# Altium footprint library PCBLib_Sceric.PcbLib: 5 footprints
Each footprint in its own frame and in the unit in brackets; x right, y up, seen from the top. Pads: shape width x height; smd on the part's side, far side on the other; paste and mask are expansions set on the pad; w line width, h text height; cw(c..) or ccw(c..) is an arc to the next point about the centre after c.
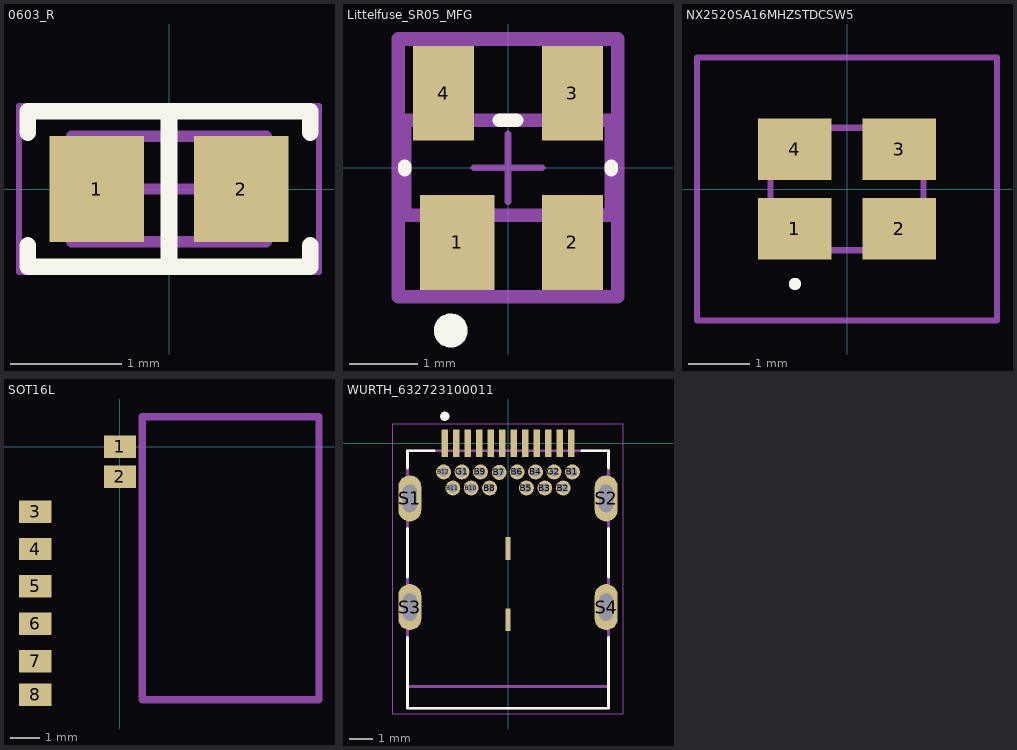
[diagram p0: the footprints below, top view; thin cyan lines are the x and y axes]

## 0603_R [mm]
pads (2):
  rect 0.85x0.95 smd: 1(-0.65,0) 2(0.65,0)
Top Overlay:
  lines w0.15: -1.27,-0.508 -1.27,-0.7 1.27,-0.7 1.27,-0.508 ; -1.27,0.508 -1.27,0.7 1.27,0.7 1.27,0.508 ; 0,-0.7 0,0.7
Mechanical 13:
  lines w0.1: -0.875,-0.475 0.875,-0.475 0.875,0.475 -0.875,0.475 -0.875,-0.475
Mechanical 15:
  lines w0.05: -1.35,-0.75 1.35,-0.75 1.35,0.75 -1.35,0.75 -1.35,-0.75
  lines w0.1: -0.475,0 0.475,0 ; 0,-0.475 0,0.475
3D body "0603 resistor.STEP": height 0.45, standoff 0, extent -0.8,-0.4 0.8,0.4

## Littelfuse_SR05_MFG [mm]
pads (4):
  rect 1.1x1.4 smd paste+0 mask+0: 1(-0.75,-1.1)
  rect 0.9x1.4 smd paste+0 mask+0: 2(0.95,-1.1) 3(0.95,1.1) 4(-0.95,1.1)
Top Overlay:
  circle w0.25: c-0.845,-2.4 r0.125
  lines w0.2: -1.52,-0.025 -1.52,0.025 ; -0.125,0.7 0.125,0.7 ; 1.52,-0.025 1.52,0.025
Mechanical 10:
  lines w0.2: -1.62,-1.9 1.62,-1.9 1.62,1.9 -1.62,1.9 -1.62,-1.9
  text ".Designator" at 0,-0.001 h1
Mechanical 12:
  lines w0.2: -1.52,-0.7 1.52,-0.7 1.52,0.7 -1.52,0.7 -1.52,-0.7
Mechanical 15:
  lines w0.1: -0.5,0 0.5,0 ; 0,-0.5 0,0.5
  lines w0.2: -1.62,-1.9 1.62,-1.9 1.62,1.9 -1.62,1.9 -1.62,-1.9
3D body "Diode_Littelfuse_SR05-02CTG_eec.STEP": height 0.25, standoff 0, extent -1.62,-1.9 1.62,1.9

## NX2520SA16MHZSTDCSW5 [mm]
pads (4):
  rect 1.2x1 smd: 1(-0.85,-0.65) 2(0.85,-0.65) 3(0.85,0.65) 4(-0.85,0.65)
Top Overlay:
  lines w0.1: -0.85,-1.6 cw(c-0.85,-1.55) -0.85,-1.5 cw(c-0.85,-1.55) -0.85,-1.6
Mechanical 13:
  lines w0.1: -1.25,-1 -1.25,1 1.25,1 1.25,-1 -1.25,-1
Mechanical 15:
  lines w0.1: -2.45,-2.15 -2.45,2.15 2.45,2.15 2.45,-2.15 -2.45,-2.15
3D body "NX2520SA-16MHZ-STD-CSW-5.stp": height 0.65, standoff 0, extent -1.35,-1.05 1.35,1.05

## SOT16L [mm]
pads (8):
  rect 1.1x0.76 smd: 1(0,0) 2(0,-1.016) 3(-2.879,-2.201) 4(-2.879,-3.471) 5(-2.879,-4.741) 6(-2.879,-6.011) 7(-2.879,-7.281) 8(-2.879,-8.424)
Mechanical 13:
  lines w0.254: 0.762,-8.584 0.762,1.016 6.762,1.016 6.762,-8.584 0.762,-8.584

## WURTH_632723100011 [mm]
height 10.5
pads (32):
  rect 0.3x1.2 smd: A1(-2.75,0) A2(-2.25,0) A3(-1.75,0) A4(-1.25,0) A5(-0.75,0) A6(-0.25,0) A7(0.25,0) A8(0.75,0) A9(1.25,0) A10(1.75,0) A11(2.25,0) A12(2.75,0)
  round 0.65 hole 0.4: B1(2.8,-1.25) B2(2.4,-1.95) B3(1.6,-1.95) B4(1.2,-1.25) B5(0.8,-1.95) B6(0.4,-1.25) B7(-0.381,-1.27) B8(-0.8,-1.95) B9(-1.2,-1.25) B10(-1.6,-1.95) B11(-2.4,-1.95) B12(-2.8,-1.25) G1(-2,-1.25) G2(2,-1.25)
  oval 1x2 hole 0.6 slot 1.2 at 90 deg: S1(-4.27,-2.4) S2(4.27,-2.4) S3(-4.27,-7.13) S4(4.27,-7.13)
  rect 0.2x1 smd: S5(0,-4.58) S6(0,-7.68)
Top Overlay:
  circle w0.2: c-2.75,1.17 r0.1
  lines w0.127: -4.37,-8.444 -4.37,-11.53 4.37,-11.53 4.37,-8.444 ; -4.37,-5.816 -4.37,-3.714 ; -4.37,-1.08 -4.37,-0.33 -3.214,-0.33 ; 3.214,-0.33 4.37,-0.33 4.37,-1.08 ; 4.37,-5.816 4.37,-3.714
Mechanical 13:
  circle w0.2: c-2.75,1.17 r0.1
  lines w0.127: -4.37,-10.58 4.37,-10.58 ; -4.37,-10.58 -4.37,-0.33 4.37,-0.33 4.37,-10.58 ; -4.37,-10.58 -4.37,-11.53 4.37,-11.53 4.37,-10.58
  text "PCB Edge" at -2.5,-10.25 h0.81
Mechanical 15:
  lines w0.05: -5.02,-11.78 -5.02,0.85 5.02,0.85 5.02,-11.78 -5.02,-11.78
3D body "632723100011_USB_Type_C.stp": height 2.98, standoff -1.88, extent -4.37,-11.54 4.37,0.254